# Altium footprint library ESP8266-01-Breakout.PcbLib: 1 footprints
Each footprint in its own frame and in the unit in brackets; x right, y up, seen from the top. Pads: shape width x height; smd on the part's side, far side on the other; paste and mask are expansions set on the pad; w line width, h text height; cw(c..) or ccw(c..) is an arc to the next point about the centre after c.
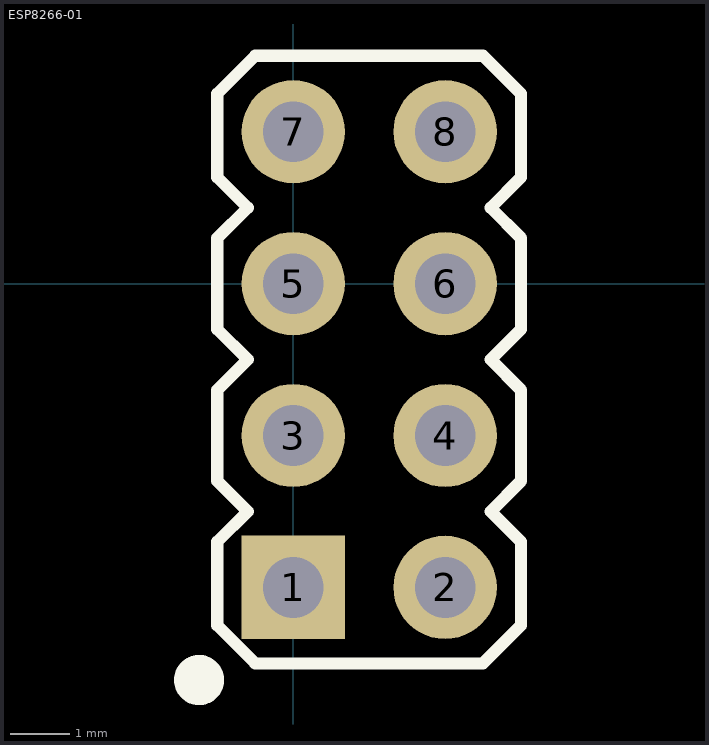
[diagram p0: the footprint, top view; thin cyan lines are the x and y axes]

## ESP8266-01 [mil]
pads (8):
  rect 68x68 hole 40: 1(0,-200)
  round 68 hole 40: 2(100,-200) 3(0,-100) 4(100,-100) 5(0,0) 6(100,0) 7(0,100) 8(100,100)
Top Overlay:
  circle w17: c-62,-261 r8
  lines w8: -50,-225 -25,-250 125,-250 150,-225 150,-170 130,-150 150,-130 150,-70 130,-50 150,-30 150,30 130,50 150,70 150,125 125,150 -25,150 -50,125 -50,70 -30,50 -50,30 -50,-30 -30,-50 -50,-70 -50,-130 -30,-150 -50,-170 -50,-225